# Altium schematic symbol library BZX84-C5V6_215.SchLib: 1 symbol
Pins are listed as number, name and electrical type; pins without a type are passive.

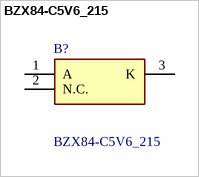
[diagram p0: symbol BZX84-C5V6_215]

## BZX84-C5V6_215
designator B?
5.6V Zener diode,BZX84C5V6 300mW NXP BZX84-C5V6,215 Zener Diode, 5.6V 5% 0.25 W SMT 3-Pin TO-236AB; Manufacturer_Name: Nexperia; Geometry.Height: 1.1mm; Manufacturer_Part_Number: BZX84-C5V6,215; Mouser Part Number: 771-BZX84-C5V6-T/R; Mouser Price/Stock: https://www.mouser.co.uk/ProductDetail/Nexperia/BZX84-C5V6215?qs=me8TqzrmIYUqZBy94aN2WQ%3D%3D; Arrow Part Number: BZX84-C5V6,215; Arrow Price/Stock: https://www.arrow.com/en/products/bzx84-c5v6215/nexperia?utm_currency=USD&region=asia; Datasheet Link: https://assets.nexperia.com/documents/data-sheet/BZX84_SER.pdf
footprint SOT95P230X110-3N
pins: 1 A, 2 N.C., 3 K